# EAGLE library part FSONCORE (library FSOncore)
FSOncore GPS Module PCB Layout for the FSOncore GPS module from Motorola.
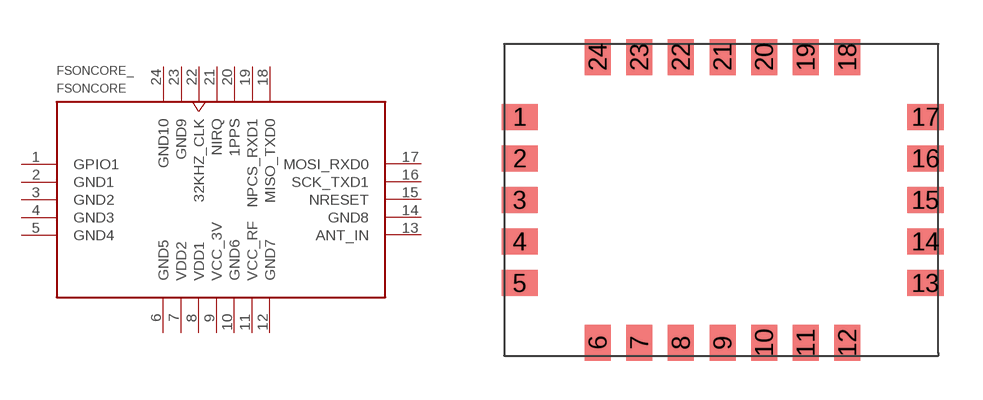
[diagram p0: symbol with the pads of FSONCORE; footprint FSONCORE]

Designator prefix FSONCORE_

## FSONCORE  [FSONCORE]
1  GPIO1
2  GND1
3  GND2
4  GND3
5  GND4
6  GND5
7  VDD2
8  VDD1
9  VCC_3V
10  GND6
11  VCC_RF
12  GND7
13  ANT_IN  in
14  GND8
15  NRESET  in
16  SCK_TXD1
17  MOSI_RXD0
18  MISO_TXD0
19  NPCS_RXD1
20  1PPS
21  NIRQ
22  32KHZ_CLK  in
23  GND9
24  GND10

## Footprint FSONCORE (pad centres in mm)
smd 1.4 x 1: 1 -7.8,3.2; 2 -7.8,1.6; 3 -7.8,0; 4 -7.8,-1.6; 5 -7.8,-3.2; 13 7.8,-3.2; 14 7.8,-1.6; 15 7.8,0; 16 7.8,1.6; 17 7.8,3.2
smd 1 x 1.4: 6 -4.8,-5.5; 7 -3.2,-5.5; 8 -1.6,-5.5; 9 0,-5.5; 10 1.6,-5.5; 11 3.2,-5.5; 12 4.8,-5.5; 18 4.8,5.5; 19 3.2,5.5; 20 1.6,5.5; 21 0,5.5; 22 -1.6,5.5; 23 -3.2,5.5; 24 -4.8,5.5